# Altium footprint library RD91.PcbLib: 1 footprints
Each footprint in its own frame and in the unit in brackets; x right, y up, seen from the top. Pads: shape width x height; smd on the part's side, far side on the other; paste and mask are expansions set on the pad; w line width, h text height; cw(c..) or ccw(c..) is an arc to the next point about the centre after c.
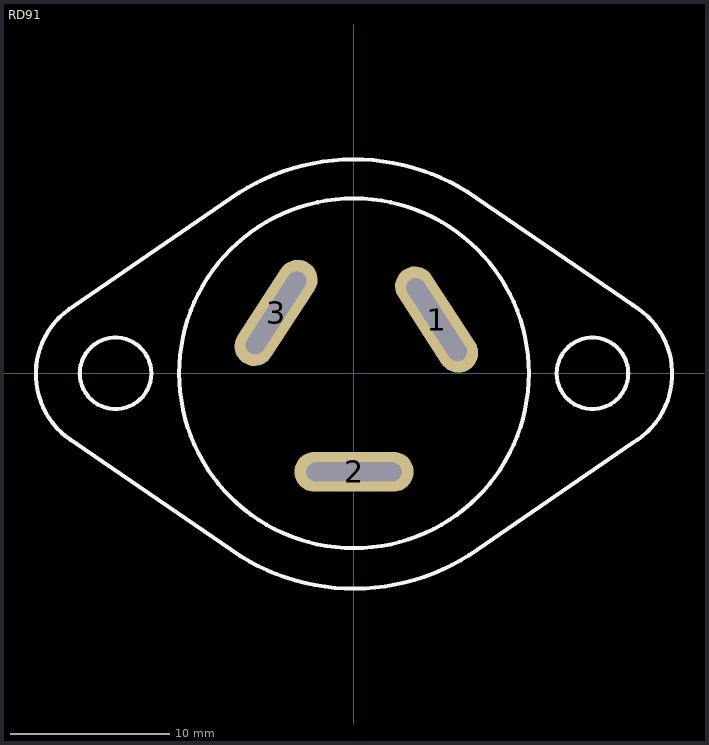
[diagram p0: the footprint, top view; thin cyan lines are the x and y axes]

## RD91 [mm]
pads (3):
  oval 7.5x2.5 hole 1.2 slot 6 at 123 deg rot 123: 1(5.2,3.38)
  oval 7.5x2.5 hole 1.2 slot 6 at 0 deg: 2(0,-6.2)
  oval 7.5x2.5 hole 1.2 slot 6 at 57 deg rot 57: 3(-4.9,3.8)
Top Overlay:
  circle w0.254: c15,0 r2.25
  circle w0.254: c-15,0 r2.25
  circle w0.254: c0,0 r11
  lines w0.254: -17.599,4.245 ccw(c-15,-0.043) -17.502,-4.389 -7.123,-11.514 ccw(c0,-0.043) 7.234,-11.444 17.522,-4.378 ccw(c15,-0.043) 17.56,4.268 7.123,11.427 ccw(c0,-0.043) -7.234,11.357 -17.599,4.245